# EAGLE library part ADC081C021 (library adcLib)
ADC081C021 / ADC101C021 / ADC121C021 National Semiconductor I2C Analog to Digital Converter. 8-pin version. 6-pin variants either have single address line or alert line
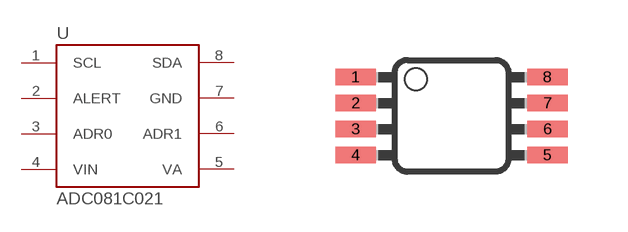
[diagram p0: symbol with the pads of MSOP8_0.65; footprint MSOP8_0.65]

Designator prefix -

## ADC081C021  [MSOP8_0.65]
1  SCL
2  ALERT
3  ADR0
4  VIN
5  VA
6  ADR1
7  GND
8  SDA

## Footprint MSOP8_0.65 (pad centres in mm)
smd 1.02 x 0.41: 1 -2.4,0.95; 2 -2.4,0.3; 3 -2.4,-0.35; 4 -2.4,-1; 5 2.4,-1; 6 2.4,-0.35; 7 2.4,0.3; 8 2.4,0.95